# Altium schematic symbol library SCH - ARM CORTEX - NXP LPC802M001JDH20.SchLib: 1 symbol
Pins are listed as number, name and electrical type; pins without a type are passive.

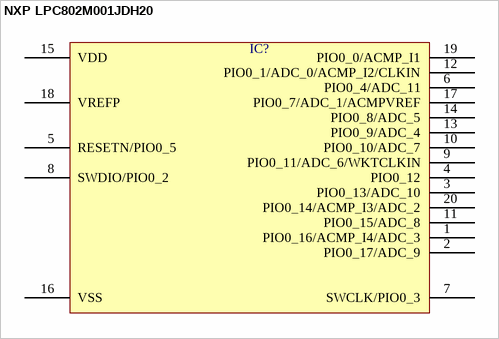
[diagram p0: symbol NXP LPC802M001JDH20]

## NXP LPC802M001JDH20
designator IC?  (value not drawn)
pins: 1 PIO0_16/ACMP_I4/ADC_3, 2 PIO0_17/ADC_9, 3 PIO0_13/ADC_10, 4 PIO0_12, 5 RESETN/PIO0_5, 6 PIO0_4/ADC_11, 7 SWCLK/PIO0_3, 8 SWDIO/PIO0_2, 9 PIO0_11/ADC_6/WKTCLKIN, 10 PIO0_10/ADC_7, 11 PIO0_15/ADC_8, 12 PIO0_1/ADC_0/ACMP_I2/CLKIN, 13 PIO0_9/ADC_4, 14 PIO0_8/ADC_5, 15 VDD, 16 VSS, 17 PIO0_7/ADC_1/ACMPVREF, 18 VREFP, 19 PIO0_0/ACMP_I1, 20 PIO0_14/ACMP_I3/ADC_2